# Altium footprint library nanofootprint.PcbLib: 1 footprints
Each footprint in its own frame and in the unit in brackets; x right, y up, seen from the top. Pads: shape width x height; smd on the part's side, far side on the other; paste and mask are expansions set on the pad; w line width, h text height; cw(c..) or ccw(c..) is an arc to the next point about the centre after c.
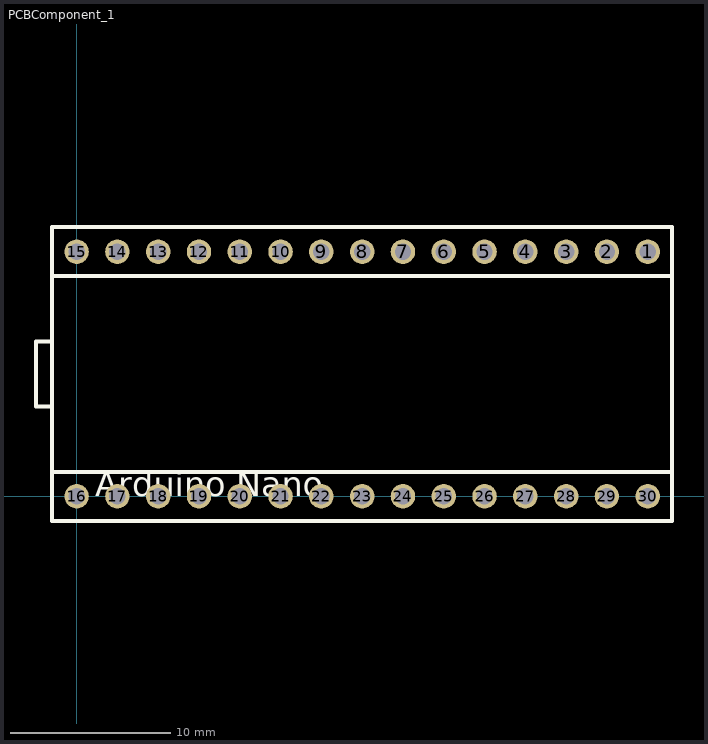
[diagram p0: the footprint, top view; thin cyan lines are the x and y axes]

## PCBComponent_1 [mil]
pads (30):
  round 60 hole 40: 1(1400,600) 2(1300,600) 3(1200,600) 4(1100,600) 5(1000,600) 6(900,600) 7(800,600) 8(700,600) 9(600,600) 10(500,600) 11(400,600) 12(300,600) 13(200,600) 14(100,600) 15(0,600) 16(0,0) 17(100,0) 18(200,0) 19(300,0) 20(400,0) 21(500,0) 22(600,0) 23(700,0) 24(800,0) 25(900,0) 26(1000,0) 27(1100,0) 28(1200,0) 29(1300,0) 30(1400,0)
Top Overlay:
  lines w10: -60,220 -100,220 -100,380 -60,380 ; -60,60 -60,-60 1460,-60 1460,60 ; -60,60 1460,60 ; -60,60 -60,540 ; -60,540 -60,660 1460,660 1460,540 ; -60,540 1460,540 ; 1460,60 1460,540
  text "Arduino Nano" at 45.11,0 h60